# Altium schematic symbol library TPS22967.SchLib: 1 symbol
Pins are listed as number, name and electrical type; pins without a type are passive.

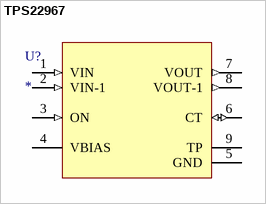
[diagram p0: symbol TPS22967]

## TPS22967
designator U?
Value: *
pins: 1 VIN (in), 2 VIN-1 (in), 3 ON (in), 4 VBIAS (power), 5 GND (power), 6 CT (io), 7 VOUT (out), 8 VOUT-1 (out), 9 TP (power)